# Altium schematic symbol library CC0402JRNP09BN150.SchLib: 2 symbols
Pins are listed as number, name and electrical type; pins without a type are passive.

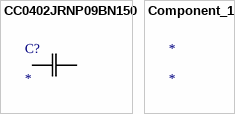
[diagram p0: symbols CC0402JRNP09BN150 to Component_1]

## CC0402JRNP09BN150
designator C?
No Description Available; Mfr_Name: Yageo
footprint CC0402N_YAG
pins: 1, 2

## Component_1
designator *